# Altium footprint library GY9250.PcbLib: 1 footprints
Each footprint in its own frame and in the unit in brackets; x right, y up, seen from the top. Pads: shape width x height; smd on the part's side, far side on the other; paste and mask are expansions set on the pad; w line width, h text height; cw(c..) or ccw(c..) is an arc to the next point about the centre after c.
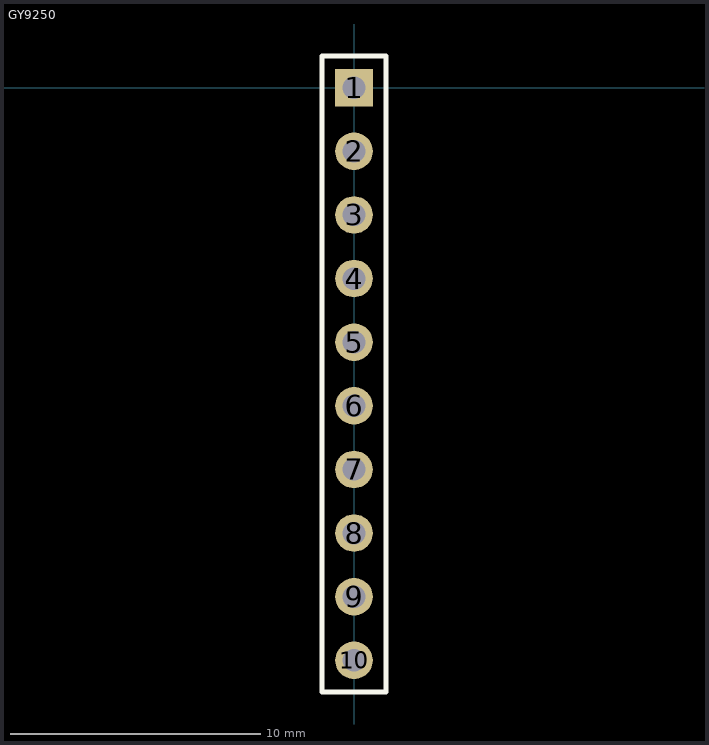
[diagram p0: the footprint, top view; thin cyan lines are the x and y axes]

## GY9250 [mm]
pads (10):
  rect 1.5x1.5 hole 0.9: 1(0,0)
  round 1.5 hole 0.9: 2(0,-2.54) 3(0,-5.08) 4(0,-7.62) 5(0,-10.16) 6(0,-12.7) 7(0,-15.24) 8(0,-17.78) 9(0,-20.32) 10(0,-22.86)
Top Overlay:
  lines w0.2: 1.27,1.25 1.27,-24.13 -1.27,-24.13 -1.27,1.27 1.27,1.27
3D body: height 8, standoff 6.5, extent -1.27,-24.765 13.97,1.905
3D body "PLS-10.step": height 8.54, standoff -3, extent -1.27,-24.13 1.27,1.27
3D body "MPU9250.step": height 9, standoff 7.95, extent 4.84,-12.94 7.86,-9.92